# EAGLE library part SIM7050 (library lib_stankus)
SIM7050 micro SIM socket Farnell 2443103, 2443104
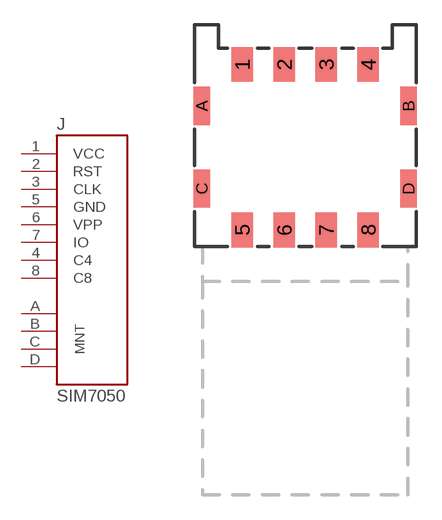
[diagram p84: symbol with the pads of SIM7050; footprint SIM7050]

Designator prefix J

## SIM7050  [SIM7050]
1  VCC  pas
2  RST  pas
3  CLK  pas
4  C4  pas
5  GND  pas
6  VPP  pas
7  IO  pas
8  C8  pas
A  MNT  pas
B  MNT  pas
C  MNT  pas
D  MNT  pas

## Footprint SIM7050 (pad centres in mm)
SIM7050
smd 1.3 x 2.1: 1 -3.81,5; 2 -1.27,5; 3 1.27,5; 4 3.81,5; 5 -3.81,-5; 6 -1.27,-5; 7 1.27,-5; 8 3.81,-5
smd 1 x 2.3: A -6.25,2.5; B 6.25,2.5; C -6.25,-2.5; D 6.25,-2.5